# Altium schematic symbol library SCH - DIODES - LED.Schlib: 1 symbol
Pins are listed as number, name and electrical type; pins without a type are passive.

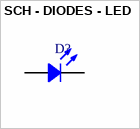
[diagram p0: symbol SCH - DIODES - LED]

## SCH - DIODES - LED
designator D?
footprint LED THT 90° (THT Mono-color Round Color LED, 2-leads)
pins: 1, 2